# Altium footprint library FS44B0.PcbLib: 40 footprints (part 3 of 3)
Each footprint in its own frame and in the unit in brackets; x right, y up, seen from the top. Pads: shape width x height; smd on the part's side, far side on the other; paste and mask are expansions set on the pad; w line width, h text height; cw(c..) or ccw(c..) is an arc to the next point about the centre after c.
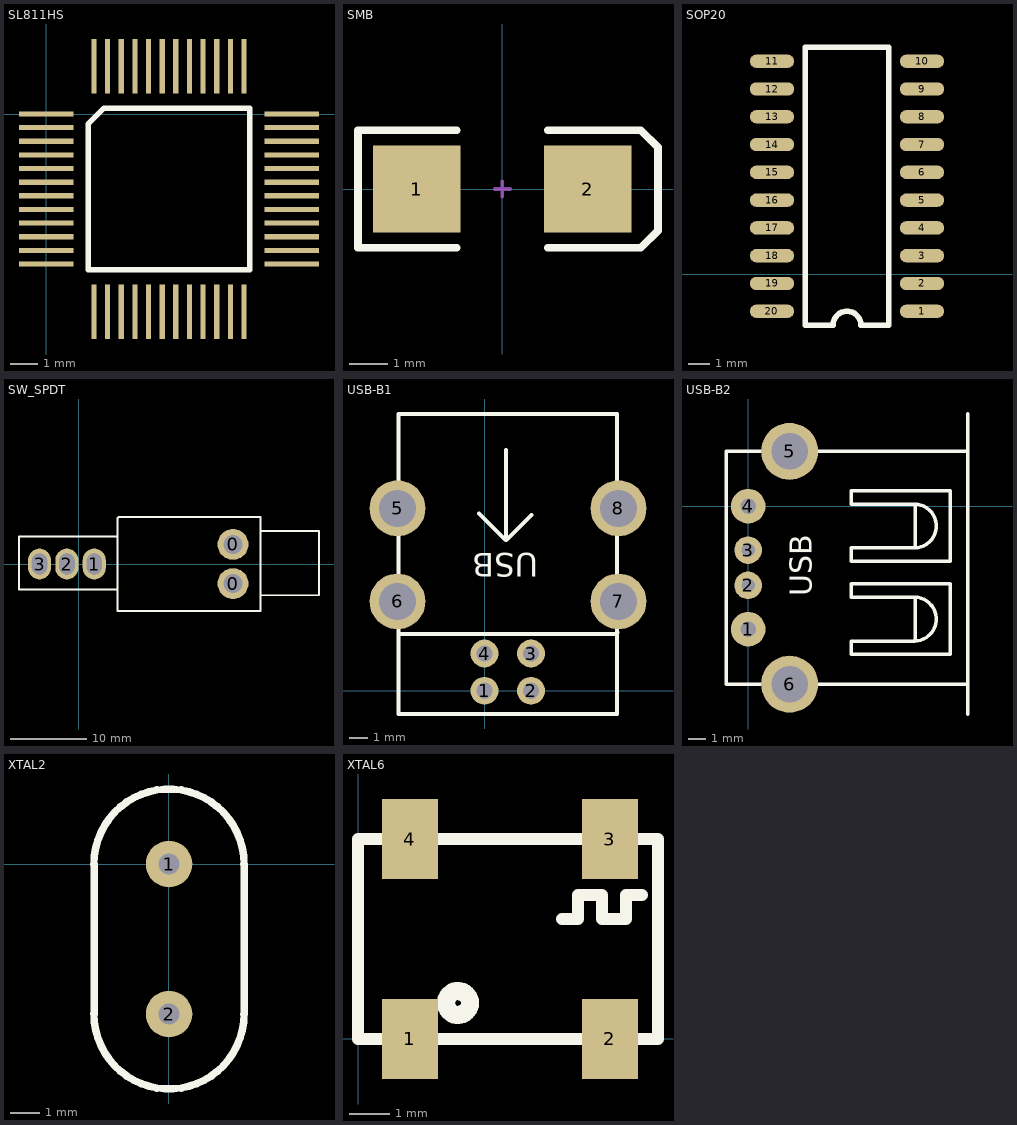
[diagram p2: the footprints below, top view; thin cyan lines are the x and y axes]

## SL811HS [mm]
pads (48):
  rect 2x0.19 smd: 1(0,0) 2(0,-0.5) 3(0,-1) 4(0,-1.5) 5(0,-2) 6(0,-2.5) 7(0,-3) 8(0,-3.5) 9(0,-4) 10(0,-4.5) 11(0,-5) 12(0,-5.5) 25(9,-5.5) 26(9,-5) 27(9,-4.5) 28(9,-4) 29(9,-3.5) 30(9,-3) 31(9,-2.5) 32(9,-2) 33(9,-1.5) 34(9,-1) 35(9,-0.5) 36(9,0)
  rect 0.19x2 smd: 13(1.75,-7.25) 14(2.25,-7.25) 15(2.75,-7.25) 16(3.25,-7.25) 17(3.75,-7.25) 18(4.25,-7.25) 19(4.75,-7.25) 20(5.25,-7.25) 21(5.75,-7.25) 22(6.25,-7.25) 23(6.75,-7.25) 24(7.25,-7.25) 37(7.25,1.75) 38(6.75,1.75) 39(6.25,1.75) 40(5.75,1.75) 41(5.25,1.75) 42(4.75,1.75) 43(4.25,1.75) 44(3.75,1.75) 45(3.25,1.75) 46(2.75,1.75) 47(2.25,1.75) 48(1.75,1.75)
Top Overlay:
  lines w0.2: 1.535,-5.715 7.465,-5.715 7.465,0.215 2.12,0.215 1.535,-0.37 1.535,-5.715

## SMB [mm] "DO-214-AA/SMB; 2 C-Bend Leads; Body 5.3 x 3.6 mm, inc. leads (LxW)"
height 2.54
pads (2):
  rect 2.3x2.3 smd: 1(-2.25,0) 2(2.25,0)
Top Overlay:
  lines w0.2: -1.2,-1.55 -3.8,-1.55 -3.8,1.55 -1.2,1.55 ; 1.2,-1.55 3.65,-1.55 4.1,-1.1 4.1,1.1 3.65,1.55 1.2,1.55
Mechanical 1:
  lines w0.1: -0.2,0 0.2,0 ; 0,-0.2 0,0.2

## SOP20 [mil]
pads (20):
  oval 80x24 smd: 1(527.41,-66.22) 2(527.41,-16.22) 3(527.41,33.78) 4(527.41,83.78) 5(527.41,133.78) 6(527.41,183.78) 7(527.41,233.78) 8(527.41,283.78) 9(527.41,333.78) 10(527.41,383.78) 11(257.41,383.78) 12(257.41,333.78) 13(257.41,283.78) 14(257.41,233.78) 15(257.41,183.78) 16(257.41,133.78) 17(257.41,83.78) 18(257.41,33.78) 19(257.41,-16.22)
  oval 80x24.02 smd: 20(257.4,-66.22)
Top Overlay:
  lines w10: 317.41,-91.22 317.41,408.78 467.41,408.78 467.41,-91.22 417.41,-91.22 ccw(c392.41,-91.22) 367.41,-91.22 317.41,-91.22

## SW_SPDT [mm]
pads (5):
  round 4 hole 2.5: 0(20.066,-2.54) 0(20.066,2.54)
  oval 3x4 hole 2 slot 2.75 at 90 deg: 1(2.032,0) 2(-1.524,0) 3(-5.08,0)
Top Overlay:
  lines w0.254: 23.622,-4.064 31.242,-4.064 31.242,4.318 23.622,4.318 ; 5.08,-3.302 -7.747,-3.302 -7.747,3.556 5.08,3.556 ; 5.08,-3.302 5.08,-6.096 23.622,-6.096 23.622,6.096 5.207,6.096 5.08,5.969 5.08,3.556 ; 5.08,-3.302 5.08,3.556

## USB-B1 [mil]
pads (8):
  round 60 hole 35: 1(0,0) 2(100,0) 3(100,80) 4(0,80)
  round 120 hole 80: 5(-187,392) 6(-187,192) 7(288,192) 8(288,392)
Top Overlay:
  lines w8: -185,122 285,122 286,126 ; -12,381 44,325 ; 46,324 46,518 ; 47,324 101,378 ; -185,-50 285,-50 285,595 -185,595 -185,-50
  text "USB" at 115,296 h50

## USB-B2 [mil]
pads (6):
  round 78.74 hole 35.43: 1(0,-280) 4(0,0)
  round 62.99 hole 31.5: 2(0,-180) 3(0,-100)
  round 129.92 hole 82.68: 5(94.49,125) 6(94.49,-405)
Top Overlay:
  lines w8: 380,-305 380,-209 ; 380,-93 380,3 ; 500,-473 500,210 ; 500,-405 -50,-405 -50,125 500,125 ; 235,-337 460,-337 460,-177 235,-177 235,-207 378.79,-207 cw(c378.26,-257) 378.79,-307 235,-307 235,-337 ; 235,-125 460,-125 460,35 235,35 235,5 378.79,5 cw(c378.26,-44.99) 378.79,-95 235,-95 235,-125
  text "USB" at 145,-205 h50

## XTAL2 [mil]
pads (2):
  round 62 hole 28: 1(0,0) 2(0,-200)
Top Overlay:
  lines w10: -100,-200 ccw(c0,-200) 100,-200 100,0 ccw(c0,0) -100,0 -100,-200

## XTAL6 [mm]
pads (4):
  rect 1.4x2 smd: 1(1.3,0) 2(6.3,0) 3(6.3,5) 4(1.3,5)
Top Overlay:
  circle w0.254: c2.5,0.9 r0.4
  circle w0.254: c2.5,0.9 r0.2
  lines w0.305: 5.1,3 5.5,3 5.5,3.6 6.1,3.6 6.1,3 6.6,3 6.7,3 6.7,3.6 7.1,3.6 ; 0,0 0,5 7.5,5 7.5,0 0,0